# Altium footprint library 0805.PcbLib: 3 footprints
Each footprint in its own frame and in the unit in brackets; x right, y up, seen from the top. Pads: shape width x height; smd on the part's side, far side on the other; paste and mask are expansions set on the pad; w line width, h text height; cw(c..) or ccw(c..) is an arc to the next point about the centre after c.
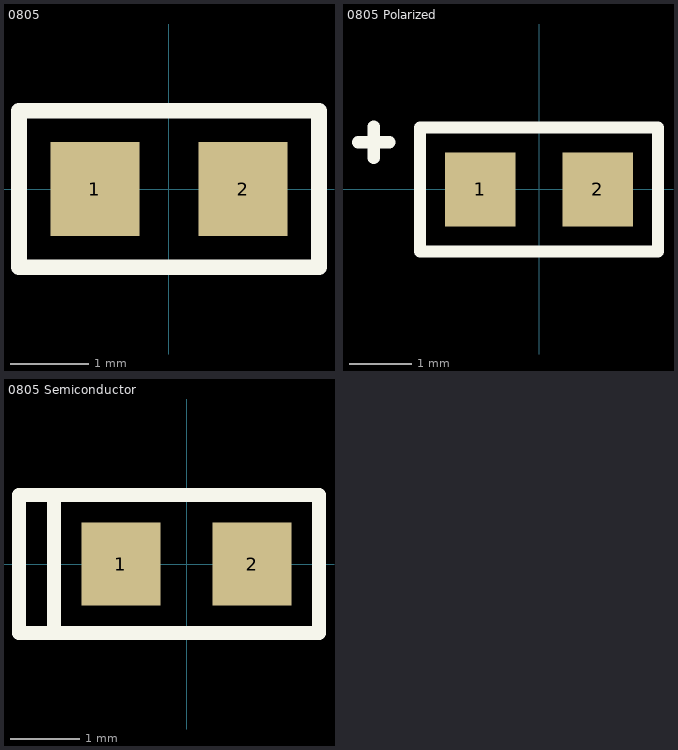
[diagram p0: the footprints below, top view; thin cyan lines are the x and y axes]

## 0805 [mm]
pads (2):
  rect 1.14x1.2 smd: 1(-0.95,0) 2(0.95,0)
Top Overlay:
  lines w0.2: -1.92,-1 1.92,-1 1.92,1 -1.92,1 -1.92,0 -1.92,-1
3D body: height 0.45, standoff 0, extent -0.6,-0.6 0.6,0.6
3D body: height 0.45, standoff 0, extent -1,-0.6 -0.6,0.6
3D body: height 0.45, standoff 0, extent 0.6,-0.6 1,0.6

## 0805 Polarized [mm]
pads (2):
  rect 1.14x1.2 smd: 1(-0.95,0) 2(0.95,0)
Top Overlay:
  lines w0.2: -2.921,0.762 -2.413,0.762 ; -2.667,0.508 -2.667,1.016 ; -1.92,-1 1.92,-1 1.92,1 -1.92,1 -1.92,0 -1.92,-1
3D body: height 0.45, standoff 0, extent -0.6,-0.6 0.6,0.6
3D body: height 0.45, standoff 0, extent -1,-0.6 -0.6,0.6
3D body: height 0.45, standoff 0, extent 0.6,-0.6 1,0.6

## 0805 Semiconductor [mm]
pads (2):
  rect 1.14x1.2 smd: 1(-0.95,0) 2(0.95,0)
Top Overlay:
  lines w0.2: -1.92,-1 -1.92,1 ; -2.428,-1 -2.428,1 1.92,1 1.92,-1 -2.428,-1
3D body: height 0.45, standoff 0, extent -0.6,-0.6 0.6,0.6
3D body: height 0.45, standoff 0, extent -1,-0.6 -0.6,0.6
3D body: height 0.45, standoff 0, extent 0.6,-0.6 1,0.6